# Altium footprint library IND_SMD.PcbLib: 11 footprints
Each footprint in its own frame and in the unit in brackets; x right, y up, seen from the top. Pads: shape width x height; smd on the part's side, far side on the other; paste and mask are expansions set on the pad; w line width, h text height; cw(c..) or ccw(c..) is an arc to the next point about the centre after c.
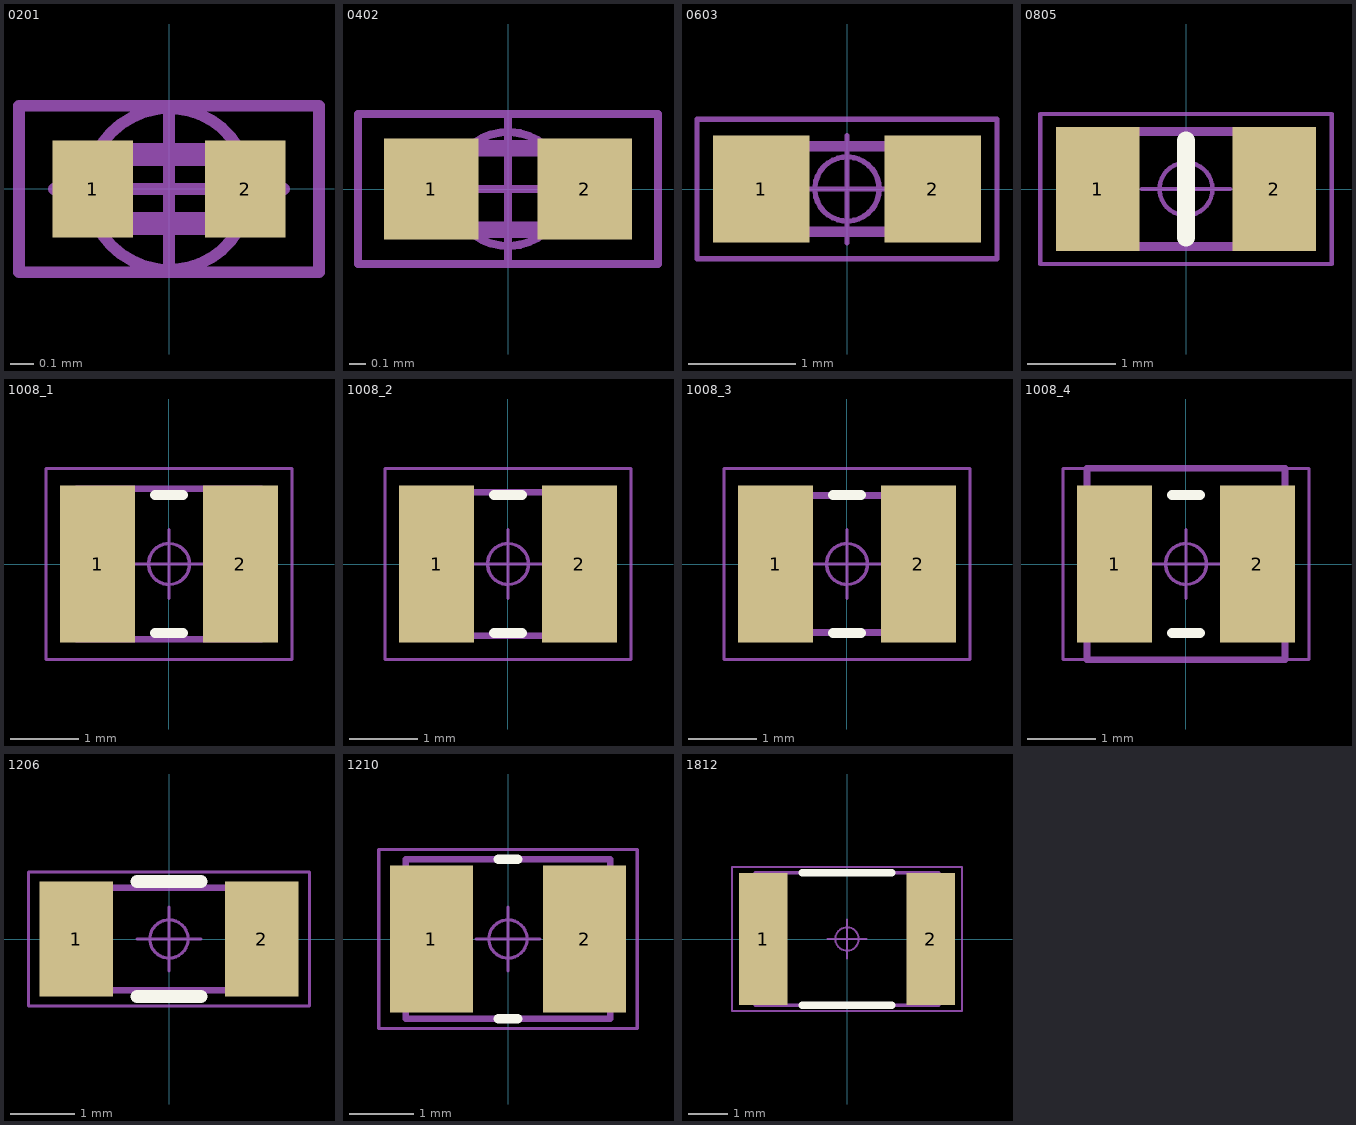
[diagram p0: the footprints below, top view; thin cyan lines are the x and y axes]

## 0201 [mm] "Chip Resistor, EIA 0201, Metric 0603, Body 0.6 x 0.3mm, IPC Medium Density"
height 0.28
pads (2):
  rect 0.35x0.42 smd: 1(-0.33,0) 2(0.33,0)
Mechanical 14:
  lines w0.1: -0.3,-0.15 0.3,-0.15 0.3,0.15 -0.3,0.15 -0.3,-0.15
  text ".Designator" at -0.15,-0.05 h0.1
Mechanical 15:
  circle w0.05: c0,0 r0.35
  lines w0.05: -0.5,0 0.5,0 ; 0,-0.36 0,0.36 ; -0.65,-0.36 0.65,-0.36 0.65,0.36 -0.65,0.36 -0.65,-0.36
3D body "L0201.step": height 0.3, standoff 0, extent -0.3,-0.15 0.3,0.15

## 0402 [mm] "Chip Resistor, EIA 0402, Metric 1005, Body 1.0x0.5mm, IPC Medium Density"
height 0.4
pads (2):
  rect 0.58x0.62 smd: 1(-0.47,0) 2(0.47,0)
Mechanical 14:
  lines w0.1: -0.5,-0.25 0.5,-0.25 0.5,0.25 -0.5,0.25 -0.5,-0.25
  text ".Designator" at -0.35,-0.1 h0.2
Mechanical 15:
  circle w0.05: c0,0 r0.35
  lines w0.05: -0.5,0 0.5,0 ; 0,-0.46 0,0.46 ; -0.92,-0.46 -0.92,0.46 0.92,0.46 0.92,-0.46 -0.92,-0.46
3D body "L0402.step": height 0.5, standoff 0, extent -0.5,-0.25 0.5,0.25

## 0603 [mm] "Chip Resistor, EIA 0603, Metric 1608, Body 1.6x0.8mm, IPC Medium Density"
height 0.55
pads (2):
  rect 0.9x1 smd: 1(-0.8,0) 2(0.8,0)
Mechanical 14:
  lines w0.1: -0.85,-0.4 0.85,-0.4 0.85,0.4 -0.85,0.4 -0.85,-0.4
  text ".Designator" at -0.7,-0.2 h0.4
Mechanical 15:
  circle w0.05: c0,0 r0.3
  lines w0.05: -0.5,0 0.5,0 ; 0,-0.5 0,0.5 ; -1.4,-0.65 1.4,-0.65 1.4,0.65 -1.4,0.65 -1.4,-0.65
3D body "L0603.step": height 0.5, standoff 0, extent -0.8,-0.4 0.8,0.4

## 0805 [mm] "Chip Resistor, EIA 0805, Metric 2012, Body 2.0x1.2mm, IPC Medium Density"
height 0.6
pads (2):
  rect 0.95x1.4 smd: 1(-1,0) 2(1,0)
Top Overlay:
  lines w0.2: 0,-0.55 0,0.55
Mechanical 14:
  lines w0.1: -1.05,-0.65 1.05,-0.65 1.05,0.65 -1.05,0.65 -1.05,-0.65
  text ".Designator" at -0.85,-0.25 h0.5
Mechanical 15:
  circle w0.05: c0,0 r0.3
  lines w0.05: -0.5,0 0.5,0 ; 0,-0.5 0,0.5 ; -1.65,-0.85 -1.65,0.85 1.65,0.85 1.65,-0.85 -1.65,-0.85
3D body "L0805.step": height 0.8, standoff 0, extent -1,-0.625 1,0.625

## 1008_1 [mm] "Chip Inductor, 2-Leads, Body 2,50x2,00mm, IPC Medium Density"
height 0.9
pads (2):
  rect 1.1x2.3 smd: 1(-1.045,0) 2(1.045,0)
Top Overlay:
  lines w0.15: -0.2,-1.01 0.2,-1.01 ; -0.2,1.01 0.2,1.01
Mechanical 14:
  lines w0.1: -1.35,-1.1 1.35,-1.1 1.35,1.1 -1.35,1.1 -1.35,-1.1
  text ".Designator" at -0.762,-0.381 h0.8
Mechanical 15:
  circle w0.05: c0,0 r0.3
  lines w0.05: -0.5,0 0.5,0 ; 0,-0.5 0,0.5 ; -1.8,-1.397 1.8,-1.397 1.8,1.397 -1.8,1.397 -1.8,-1.397
3D body "INDC2520X09N.step": height 0.9, standoff 0, extent -1.35,-1.1 1.35,1.1

## 1008_2 [mm] "Chip Inductor, 2-Leads, Body 2,50x2,00mm, IPC Medium Density"
height 0.9
pads (2):
  rect 1.1x2.3 smd: 1(-1.045,0) 2(1.045,0)
Top Overlay:
  lines w0.15: -0.2,-1.01 0.2,-1.01 ; -0.2,1.01 0.2,1.01
Mechanical 14:
  lines w0.1: -1.3,-1.05 -1.3,1.05 1.3,1.05 1.3,-1.05 -1.3,-1.05
  text ".Designator" at -0.762,-0.381 h0.8
Mechanical 15:
  circle w0.05: c0,0 r0.3
  lines w0.05: -0.5,0 0.5,0 ; 0,-0.5 0,0.5 ; -1.8,-1.397 -1.8,1.397 1.8,1.397 1.8,-1.397 -1.8,-1.397
3D body "MAMK2520T1R0M.STEP": height 1.2, standoff 0, extent -1.3,-1.025 1.3,1.025

## 1008_3 [mm] "Chip Inductor, 2-Leads, Body 2,50x2,00mm, IPC Medium Density"
height 0.9
pads (2):
  rect 1.1x2.3 smd: 1(-1.045,0) 2(1.045,0)
Top Overlay:
  lines w0.15: -0.2,-1.01 0.2,-1.01 ; -0.2,1.01 0.2,1.01
Mechanical 14:
  lines w0.1: -1.25,-1 -1.25,1 1.25,1 1.25,-1 -1.25,-1
  text ".Designator" at -0.762,-0.381 h0.8
Mechanical 15:
  circle w0.05: c0,0 r0.3
  lines w0.05: -0.5,0 0.5,0 ; 0,-0.5 0,0.5 ; -1.8,-1.397 -1.8,1.397 1.8,1.397 1.8,-1.397 -1.8,-1.397
3D body "VLS252012CX.STEP": height 1.2, standoff 0, extent -1.25,-1 1.25,1

## 1008_4 [mm] "Chip Inductor, 2-Leads, Body 2,50x2,00mm, IPC Medium Density"
height 0.9
pads (2):
  rect 1.1x2.3 smd: 1(-1.045,0) 2(1.045,0)
Top Overlay:
  lines w0.15: -0.2,-1.01 0.2,-1.01 ; -0.2,1.01 0.2,1.01
Mechanical 14:
  lines w0.1: -1.45,-1.4 1.45,-1.4 1.45,1.4 -1.45,1.4 -1.45,-1.4
  text ".Designator" at -0.762,-0.381 h0.8
Mechanical 15:
  circle w0.05: c0,0 r0.3
  lines w0.05: -0.5,0 0.5,0 ; 0,-0.5 0,0.5 ; -1.8,-1.397 1.8,-1.397 1.8,1.397 -1.8,1.397 -1.8,-1.397
3D body "Coilcraft1008HQ.STEP": height 2.02, standoff -0.01, extent -1.46,-1.395 1.46,1.395

## 1206 [mm] "Chip Resistor, EIA 1206, Metric 3216, Body 3.2x1.6mm, IPC Medium Density"
height 0.7
pads (2):
  rect 1.15x1.8 smd: 1(-1.45,0) 2(1.45,0)
Top Overlay:
  lines w0.2: -0.5,-0.9 0.5,-0.9 ; -0.5,0.9 0.5,0.9
Mechanical 14:
  lines w0.1: -1.6,-0.8 -1.6,0.8 1.6,0.8 1.6,-0.8 -1.6,-0.8
  text ".Designator" at -0.85,-0.3 h0.6
Mechanical 15:
  circle w0.05: c0,0 r0.3
  lines w0.05: -0.5,0 0.5,0 ; 0,-0.5 0,0.5 ; -2.2,-1.05 -2.2,1.05 2.2,1.05 2.2,-1.05 -2.2,-1.05
3D body "L1206.step": height 1.15, standoff 0, extent -1.6,-0.825 1.6,0.775

## 1210 [mm] "Precision Wire Wound Inductor, 2-Leads, Body 3,20x2,50mm, IPC High Density"
height 2
pads (2):
  rect 1.3x2.3 smd: 1(-1.2,0) 2(1.2,0)
Top Overlay:
  lines w0.15: -0.15,-1.25 0.15,-1.25 ; -0.15,1.25 0.15,1.25
Mechanical 14:
  lines w0.1: -1.6,-1.25 1.6,-1.25 1.6,1.25 -1.6,1.25 -1.6,-1.25
  text ".Designator" at -0.85,-0.3 h0.6
Mechanical 15:
  circle w0.05: c0,0 r0.3
  lines w0.05: -0.5,0 0.5,0 ; 0,-0.5 0,0.5 ; -2.025,-1.4 2.025,-1.4 2.025,1.4 -2.025,1.4 -2.025,-1.4
3D body "LQH32CN.step": height 2, standoff 0, extent -1.601,-1.355 1.601,1.355

## 1812 [mm] "Chip Resistor, EIA 1812, Metric 4532, 2-Leads, Body 4.5x3.2mm, IPC Medium Density"
height 0.7
pads (2):
  rect 1.25x3.4 smd: 1(-2.15,0) 2(2.15,0)
Top Overlay:
  lines w0.2: -1.15,-1.7 1.15,-1.7 ; -1.15,1.7 1.15,1.7
Mechanical 14:
  lines w0.1: -2.35,-1.7 -2.35,1.7 2.35,1.7 2.35,-1.7 -2.35,-1.7
  text ".Designator" at -1.7,-0.45 h1
Mechanical 15:
  circle w0.05: c0,0 r0.3
  lines w0.05: -0.5,0 0.5,0 ; 0,-0.5 0,0.5 ; -2.95,-1.85 -2.95,1.85 2.95,1.85 2.95,-1.85 -2.95,-1.85
3D body "L1812.step": height 2.5, standoff 0, extent -2.25,-1.6 2.25,1.6